# EAGLE library part TLV3501 (library _hhn_TLV3501)
TLV3501-Q1 TI (formerly Burr-Brown) High Speed Comparator
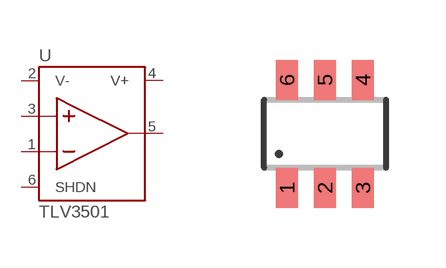
[diagram p0: symbol with the pads of SOT23-6_DBV_R-PDSO-G6; footprint SOT23-6_DBV_R-PDSO-G6]

Designator prefix U

## TLV3501-Q1  [SOT23-6_DBV_R-PDSO-G6]
1  -IN  in
2  V-  pwr
3  +IN  in
4  V+  pwr
5  OUT  out
6  SHDN  in

## Footprint SOT23-6_DBV_R-PDSO-G6 (pad centres in mm)
SOT23-6 [DBV R-PDSO-G6)]
smd 0.55 x 1: 1 -0.95,-1.35; 2 0,-1.35; 3 0.95,-1.35; 4 0.95,1.35; 5 0,1.35; 6 -0.95,1.35